# EAGLE library part 691403900006B (library WR-TBL Spring Clamp)
WR-TBL Serie 4039 - 2.54 mm Screwless Vertical Entry KIND PROPERTIES Pitch 2.54 mm MATERIAL PROPERTIES Insulator Material PA66 Insulator Flammability Rating UL94 V-0 Contact Material Brass Contact Plating Tin Wire Guard Material Stainless Steel GENERAL INFORMATION Operating Temperature -40 up to +105 °C Compliance RoHS ELECTRICAL PROPERTIES IR cULus 6 A Working Voltage [cULus] 150 V (AC) Withstanding Voltage [cULus] 2000 V (AC) Contact Resistance [cULus] 20 mΩ Mechanical Properties Wire Strip Length 9 up to 10 (mm) Wire Properties Solid Wire Section (AWG) 20 to 26 (AWG) Solid Wire Section (Metric) 0.518 to 0.129 (mm²) Stranded Wire Section (AWG) 20 to 26 (AWG) Stranded Wire Section (Metric) 0.518 to 0.129 (mm²) CERTIFICATION cULus Approval E315414 Packaging Properties Packaging Box Details see: www.we-online.com/en/components/products/TBL_2_54_4039B_SCREWLESS_VERTICAL_ENTRY_69140390000XB/ Updated by Ella Wu 2019-12-31 2019(C) Würth Elektronik
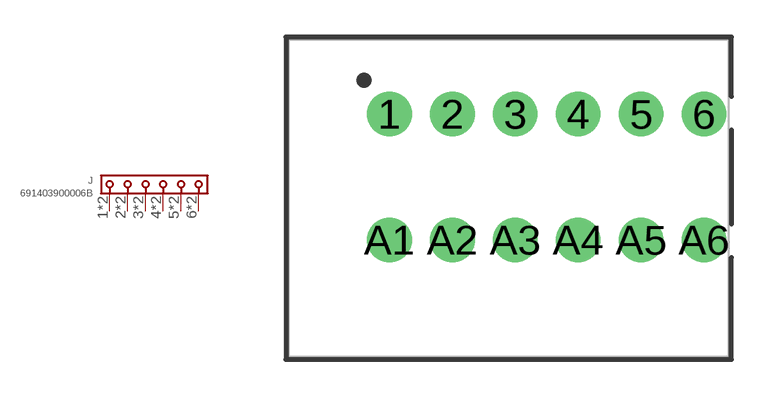
[diagram p56: symbol with the pads of 691403900006B; footprint 691403900006B]

Designator prefix J

## 691403900006B (APPLICATION: Screwless; DATASHEET: https://www.we-online.com/redexpert/spec/691403900006B?ae; IR-UL: 6A; MODULARITY: No; MOUNT: THT; PART-NUMBER: 691403900006B; PINS: 6; PITCH: 2.54mm; TYPE: Vertical; VALUE: 691403900006B; WIRE: 20 to 26 (AWG) 0.518 to 0.129 (mm²); WORKING-VOLTAGE-UL: 150V (AC))  [691403900006B]
1  1  pas
2  2  pas
3  3  pas
4  4  pas
5  5  pas
6  6  pas
A1  1  pas
A2  2  pas
A3  3  pas
A4  4  pas
A5  5  pas
A6  6  pas

## Footprint 691403900006B (pad centres in mm)
WR-TBL Serie 4039 - 2.54 mm Screwless Vertical Entry Max Height = 13.6mm , Pitch 2.54mm , 6pins
drill 1.2: 1 -6.35,2.54; 2 -3.81,2.54; 3 -1.27,2.54; 4 1.27,2.54; 5 3.81,2.54; 6 6.35,2.54; A1 -6.35,-2.54; A2 -3.81,-2.54; A3 -1.27,-2.54; A4 1.27,-2.54; A5 3.81,-2.54; A6 6.35,-2.54